# Altium integrated library UHDEMG.IntLib: 21 symbols
Pins are listed as number, name and electrical type; pins without a type are passive.

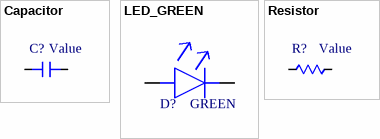
[diagram p0: symbols Capacitor to Resistor]

## Capacitor
designator C?, comment Value
Capacitor
footprint 0402_CAPACITOR
footprint 0603_CAPACITOR (Chip Capacitor, 2-Leads, Body 1.60x0.80mm, IPC Medium Density)
footprint 0805_CAPACITOR (Chip Capacitor, 2-Leads, Body 2.00x1.25mm, IPC Low Density)
pins: 1, 2

## LED_GREEN
designator D?, comment GREEN
GREEN LED
footprint LED_APT1608LZGCK (GREEN LED SMT)
pins: 1, 2

## Resistor
designator R?, comment Value
Resistor; GRAMS Lib Spec: 2.7
footprint 0402_Resistor
footprint 0603_RESISTOR
pins: 1, 2


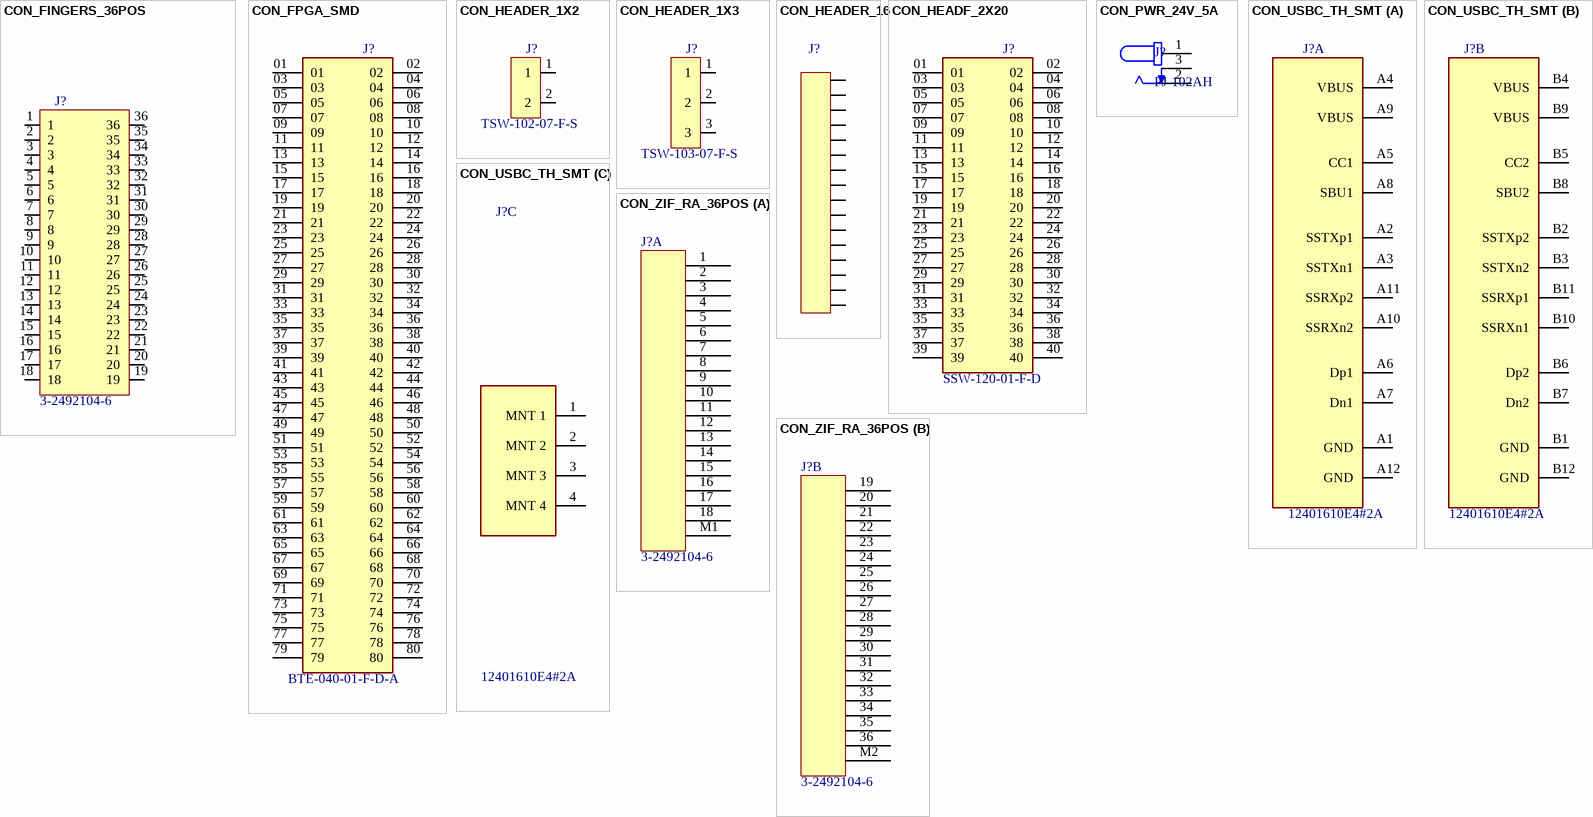
[diagram p1: symbols CON_FINGERS_36POS to CON_ZIF_RA_36POS]

## CON_FINGERS_36POS
designator J?, comment 3-2492104-6
GRAMS Lib Spec: 2.7
footprint Fingers_36POS
pins: 1, 2, 3, 4, 5, 6, 7, 8, 9, 10, 11, 12, 13, 14, 15, 16, 17, 18, 19, 20, 21, 22, 23, 24, 25, 26, 27, 28, 29, 30, 31, 32, 33, 34, 35, 36

## CON_FPGA_SMD
designator J?, comment BTE-040-01-F-D-A
80 Position Connector Header, Outer Shroud Contacts Surface Mount Gold; MF: Samtec; MP: BTE-040-01-F-D-A; Value: *; Package: None; Price: None; Availability: Unavailable
footprint SAMTEC_BTE-040-01-F-D-A
pins: 01, 02, 03, 04, 05, 06, 07, 08, 09, 10, 11, 12, 13, 14, 15, 16, 17, 18, 19, 20, 21, 22, 23, 24, 25, 26, 27, 28, 29, 30, 31, 32, 33, 34, 35, 36, 37, 38, 39, 40, 41, 42, 43, 44, 45, 46, 47, 48, 49, 50, 51, 52, 53, 54, 55, 56, 57, 58, 59, 60, 61, 62, 63, 64, 65, 66, 67, 68, 69, 70, 71, 72, 73, 74, 75, 76, 77, 78, 79, 80

## CON_HEADER_1X2
designator J?, comment TSW-102-07-F-S
Connector Header Through Hole 2 position 0.100" (2.54mm)
footprint FP-TSW-102-07-F-S-MFG
pins: 1, 2

## CON_HEADER_1X3
designator J?, comment TSW-103-07-F-S
0.025" SQ Post Header, Through-hole, Vertical, -55 to 125 degC, 2.54 mm Pitch, 3-Pin, Male, RoHS
footprint SMTC-TSW-103-07-X-S (.025 SQ Post Terminal Strip Assembly, 1x3 Pins, Vertical, 2.54mm Pitch, Male)
pins: 1, 2, 3

## CON_HEADER_16
designator J?  (value not drawn)
footprint CON_HEADER_16 (0.1" pitch)
pins: 1, 2, 3, 4, 5, 6, 7, 8, 9, 10, 11, 12, 13, 14, 15, 16

## CON_HEADF_2X20
designator J?, comment SSW-120-01-F-D
40 Position Receptacle Connector 0.100" (2.54mm) Through Hole Gold; MF: Samtec; Package: None; Availability: Unavailable; Value: *; MP: SSW-120-01-F-D; Price: None
footprint SAMTEC_SSW-120-01-F-D
pins: 01, 02, 03, 04, 05, 06, 07, 08, 09, 10, 11, 12, 13, 14, 15, 16, 17, 18, 19, 20, 21, 22, 23, 24, 25, 26, 27, 28, 29, 30, 31, 32, 33, 34, 35, 36, 37, 38, 39, 40

## CON_PWR_24V_5A
designator J?, comment PJ-102AH
Power Barrel Connector Jack 2.00mm ID (0.079"), 5.50mm OD (0.217") Through Hole, Right Angle; MF: Same Sky; SnapEDA_Link: https://www.snapeda.com/parts/PJ-102AH/Same+Sky/view-part/?ref=snap; Package: None; Value: *; MP: PJ-102AH; Check_prices: https://www.snapeda.com/parts/PJ-102AH/Same+Sky/view-part/?ref=eda
footprint CUI_PJ-102AH
pins: 1, 2, 3

## CON_USBC_TH_SMT
designator J?, comment 12401610E4#2A
USB-C (USB TYPE-C) USB 3.2 Gen 1 (USB 3.1 Gen 1, Superspeed (USB 3.0)) Receptacle Connector 24 Position Through Hole, Right Angle
footprint FP-217183-0001-MFG
footprint CON_USB_C_SMD (12401610E4)
part A pins: A1 GND, A2 SSTXp1, A3 SSTXn1, A4 VBUS, A5 CC1, A6 Dp1, A7 Dn1, A8 SBU1, A9 VBUS, A10 SSRXn2, A11 SSRXp2, A12 GND
part B pins: B1 GND, B2 SSTXp2, B3 SSTXn2, B4 VBUS, B5 CC2, B6 Dp2, B7 Dn2, B8 SBU2, B9 VBUS, B10 SSRXn1, B11 SSRXp1, B12 GND
part C pins: 1 MNT 1, 2 MNT 2, 3 MNT 3, 4 MNT 4

## CON_ZIF_RA_36POS
designator J?, comment 3-2492104-6
36 Position FPC Connector Contacts, Bottom 0.020" (0.50mm) Surface Mount, Right Angle; GRAMS Lib Spec: 2.7
footprint CON_ZIF_RA_36POS (3-2492104-6 / 36 Position FPC Connector Contacts, Bottom 0.020" (0.50mm) Surface Mount, Right Angle)
part A pins: 1, 2, 3, 4, 5, 6, 7, 8, 9, 10, 11, 12, 13, 14, 15, 16, 17, 18, M1
part B pins: 19, 20, 21, 22, 23, 24, 25, 26, 27, 28, 29, 30, 31, 32, 33, 34, 35, 36, M2


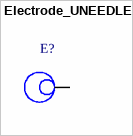
[diagram p2: symbol Electrode_UNEEDLE]

## Electrode_UNEEDLE
designator E?, comment Part Number  (value not drawn)
Microneedle electrode - 23 microneedle per electrode. 2.5 mm diameter; GRAMS Lib Spec: 2.7
pins: 1


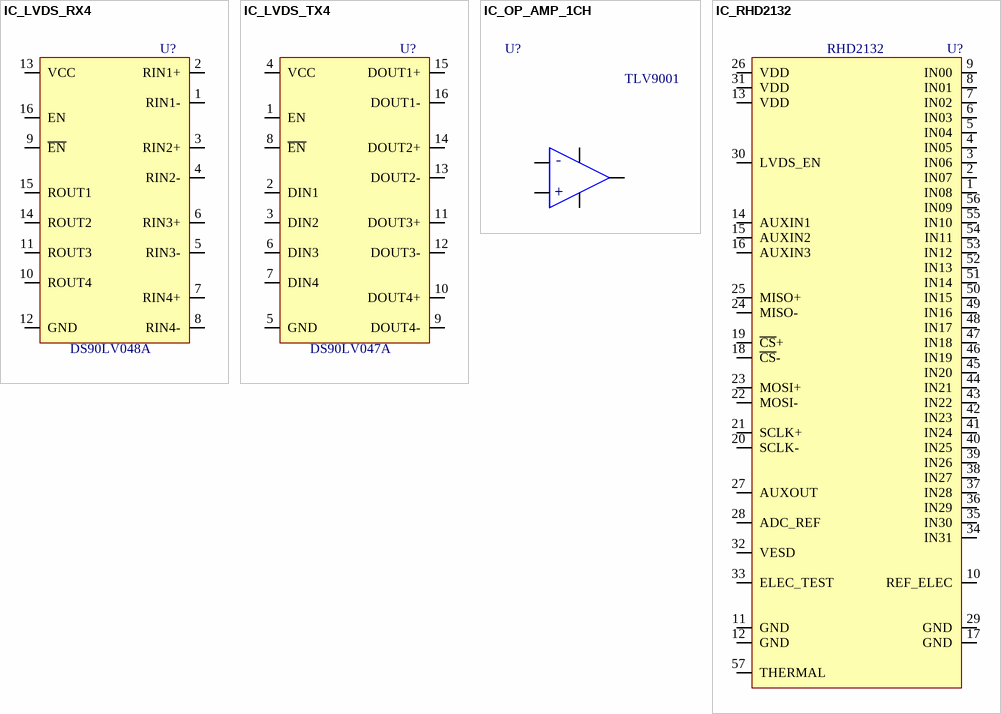
[diagram p3: symbols IC_LVDS_RX4 to IC_RHD2132]

## IC_LVDS_RX4
designator U?, comment DS90LV048A
LVDS Receiver 4 Channels with Enable
footprint TTSOP_16
pins: 1 RIN1-, 2 RIN1+, 3 RIN2+, 4 RIN2-, 5 RIN3-, 6 RIN3+, 7 RIN4+, 8 RIN4-, 9 ~{EN}, 10 ROUT4, 11 ROUT3, 12 GND, 13 VCC, 14 ROUT2, 15 ROUT1, 16 EN

## IC_LVDS_TX4
designator U?, comment DS90LV047A
LVDS Transceiver 4 Channels with Enable
footprint TTSOP_16
pins: 1 EN, 2 DIN1, 3 DIN2, 4 VCC, 5 GND, 6 DIN3, 7 DIN4, 8 ~{EN}, 9 DOUT4-, 10 DOUT4+, 11 DOUT3+, 12 DOUT3-, 13 DOUT2-, 14 DOUT2+, 15 DOUT1+, 16 DOUT1-

## IC_OP_AMP_1CH
designator U?, comment TLV9001
CMOS Amplifier 1 Circuit Rail-to-Rail SC-70-5 / 1.8V - 5.5V
footprint SOT-353 (SOT-353 Package - 5 Pins)
pins: 1 Out, 2 V-, 3 IN+, 4 IN-, 5 V+
text: -; +

## IC_RHD2132
designator U?, comment RHD2132
INTAN RHD2132 - 56-QFN; GRAMS Lib Spec: 2.7
footprint QFN-56 (56 Pin QFN Package)
pins: 1 IN08, 2 IN07, 3 IN06, 4 IN05, 5 IN04, 6 IN03, 7 IN02, 8 IN01, 9 IN00, 10 REF_ELEC, 11 GND, 12 GND, 13 VDD, 14 AUXIN1, 15 AUXIN2, 16 AUXIN3, 17 GND, 18 ~{CS}-, 19 ~{CS}+, 20 SCLK-, 21 SCLK+, 22 MOSI-, 23 MOSI+, 24 MISO-, 25 MISO+, 26 VDD, 27 AUXOUT, 28 ADC_REF, 29 GND, 30 LVDS_EN, 31 VDD, 32 VESD, 33 ELEC_TEST, 34 IN31, 35 IN30, 36 IN29, 37 IN28, 38 IN27, 39 IN26, 40 IN25, 41 IN24, 42 IN23, 43 IN22, 44 IN21, 45 IN20, 46 IN19, 47 IN18, 48 IN17, 49 IN16, 50 IN15, 51 IN14, 52 IN13, 53 IN12, 54 IN11, 55 IN10, 56 IN09, 57 THERMAL


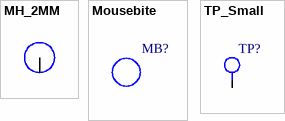
[diagram p4: symbols MH_2MM to TP_Small]

## MH_2MM
designator MH?, comment 2 mm  (value not drawn)
Mounting Hole - 2 mm
footprint MH_2MM (Mounting Hole - 2 mm)
pins: 1

## Mousebite
designator MB?, comment Part Number  (value not drawn)
Mousebite, 0.5 mm hole 5x, 0.3 mm spacing, 1.5 mm tool route; GRAMS Lib Spec: 2.7
footprint MSBITE_1.6mm (Mousebite - 1.6 mm spacing)

## TP_Small
designator TP?  (value not drawn)
Through Hole Test Point - M2
footprint TP_Small_M2
pins: 1


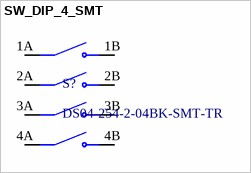
[diagram p5: symbol SW_DIP_4_SMT]

## SW_DIP_4_SMT
designator S?, comment DS04-254-2-04BK-SMT-TR
Dip Switch SPST 4 Position Surface Mount Slide (Standard) Actuator 25mA 24VDC; MF: Same Sky; SnapEDA_Link: https://www.snapeda.com/parts/DS04-254-2-04BK-SMT-TR/Same+Sky/view-part/?ref=snap; Package: None; Value: *; MP: DS04-254-2-04BK-SMT-TR; Check_prices: https://www.snapeda.com/parts/DS04-254-2-04BK-SMT-TR/Same+Sky/view-part/?ref=eda
footprint SW_DS04-254-2-04BK-SMT-TR
pins: 1A COM1, 1B NO1, 2A COM2, 2B NO2, 3A COM3, 3B NO3, 4A COM4, 4B NO4